# Altium schematic symbol library Capacitor.SchLib: 1 symbol
Pins are listed as number, name and electrical type; pins without a type are passive.

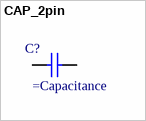
[diagram p0: symbol CAP_2pin]

## CAP_2pin
designator C?  (value not drawn)
=Description; Value: =Capacitance
pins: 1, 2